# Altium footprint library mini560.PcbLib: 1 footprints
Each footprint in its own frame and in the unit in brackets; x right, y up, seen from the top. Pads: shape width x height; smd on the part's side, far side on the other; paste and mask are expansions set on the pad; w line width, h text height; cw(c..) or ccw(c..) is an arc to the next point about the centre after c.
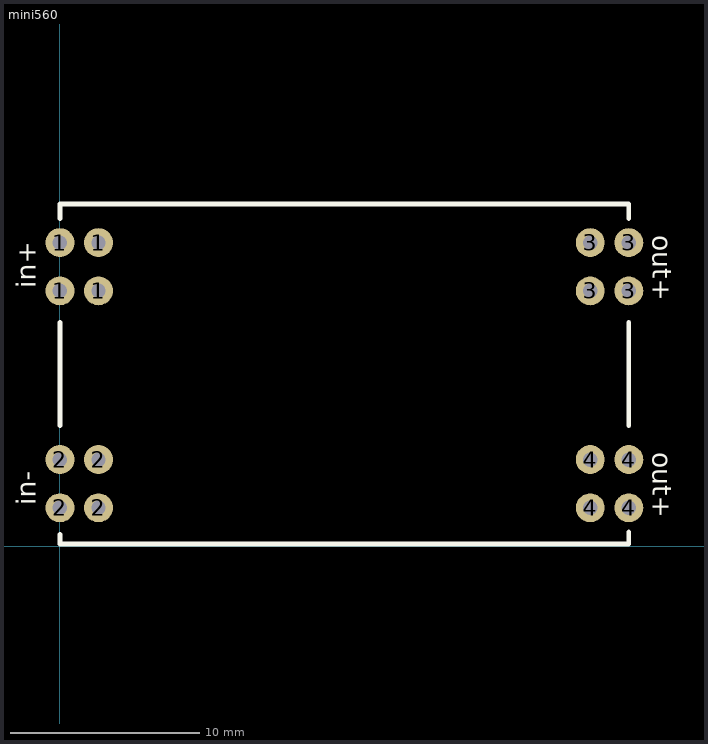
[diagram p0: the footprint, top view; thin cyan lines are the x and y axes]

## mini560 [mil]
pads (16):
  round 60 hole 30: 1(0,530) 1(0,630) 1(80,530) 1(80,630) 2(0,80) 2(0,180) 2(80,80) 2(80,180) 3(1100,530) 3(1100,630) 3(1180,530) 3(1180,630) 4(1100,80) 4(1100,180) 4(1180,80) 4(1180,180)
Top Overlay:
  lines w10: 0,25 0,5 1180,5 1180,30 ; 0,250 0,465 ; 0,680 0,710 1180,710 1180,680 ; 1180,250 1180,465
  text "in+" at -50,535 h40
  text "in-" at -50,85 h40
  text "out+" at 1230,645 h40
  text "out+" at 1230,195 h40
3D body "kicad_module_3D_MINI560_.step": height 221.11, standoff 0, extent 0,0 1181.1,708.66